# EAGLE library part AD7854 (library QuantumOptics)
AD7854, 12-bit ADC, Analog Devices, 3-5V, 100-200Ks/s, parallel 12-bit or 8-bit uC compatible. http://www.analog.com/UploadedFiles/Data_Sheets/261382579AD7854_L_b.pdf
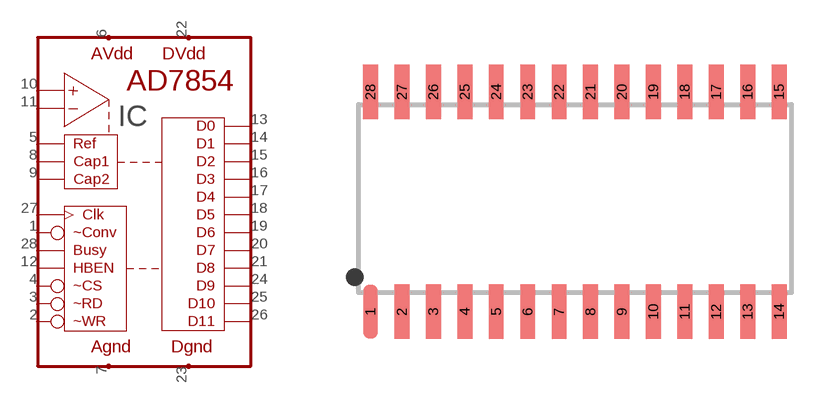
[diagram p50: symbol with the pads of SOIC28; footprint SOIC28]

Designator prefix IC

## AD7854-SOIC28  [SOIC28]
1  ~CONV
2  ~WR
3  ~RD
4  ~CS
5  REF
6  AVDD
7  AGND
8  C1
9  C2
10  IN+
11  IN-
12  HBEN
13  D0
14  D1
15  D2
16  D3
17  D4
18  D5
19  D6
20  D7
21  D8
22  DVDD
23  DGND
24  D9
25  D10
26  D11
27  CLK
28  BUSY

## Footprint SOIC28 (pad centres in mm)
SOIC-28, 0.05" pad spacing with 10mm (0.394") wide case.
smd 0.6 x 2.2: 1 -7.62,-3.81; 2 -6.35,-3.81; 3 -5.08,-3.81; 4 -3.81,-3.81; 5 -2.54,-3.81; 6 -1.27,-3.81; 7 0,-3.81; 8 1.27,-3.81; 9 2.54,-3.81; 10 3.81,-3.81; 11 5.08,-3.81; 12 6.35,-3.81; 13 7.62,-3.81; 14 8.89,-3.81; 15 8.89,5.08; 16 7.62,5.08; 17 6.35,5.08; 18 5.08,5.08; 19 3.81,5.08; 20 2.54,5.08; 21 1.27,5.08; 22 0,5.08; 23 -1.27,5.08; 24 -2.54,5.08; 25 -3.81,5.08; 26 -5.08,5.08; 27 -6.35,5.08; 28 -7.62,5.08